# Altium footprint library PCB - PASSIVES - NTC 0805_2012.PCBLIB: 1 footprints
Each footprint in its own frame and in the unit in brackets; x right, y up, seen from the top. Pads: shape width x height; smd on the part's side, far side on the other; paste and mask are expansions set on the pad; w line width, h text height; cw(c..) or ccw(c..) is an arc to the next point about the centre after c.
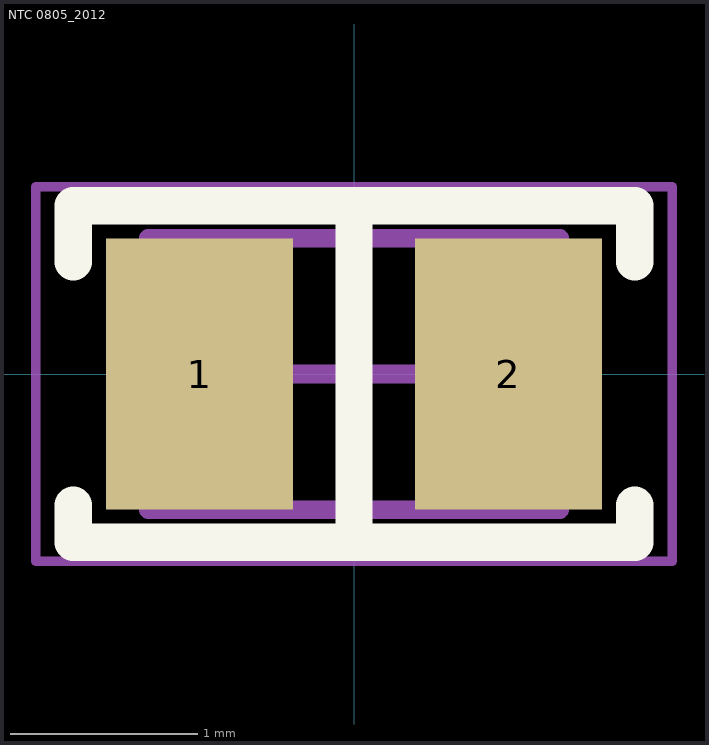
[diagram p0: the footprint, top view; thin cyan lines are the x and y axes]

## NTC 0805_2012 [mm] "Chip Thermistor, 2-Leads, Body 2.00x1.25mm, IPC Medium Density"
height 1
pads (2):
  rect 1x1.45 smd: 1(-0.825,0) 2(0.825,0)
Top Overlay:
  lines w0.2: -1.5,-0.7 -1.5,-0.9 1.5,-0.9 1.5,-0.7 ; -1.5,0.6 -1.5,0.9 1.5,0.9 1.5,0.6 ; 0,-0.9 0,0.9
Mechanical 13:
  lines w0.1: -1.1,-0.725 -1.1,0.725 1.1,0.725 1.1,-0.725 -1.1,-0.725
Mechanical 15:
  lines w0.05: -1.7,-1 -1.7,1 1.7,1 1.7,-1 -1.7,-1
  lines w0.1: -0.5,0 0.5,0 ; 0,-0.5 0,0.5
3D body "NTC 0805.STEP": height 1.27, standoff 0, extent -1,-0.637 1,0.637